# EAGLE library part TDA1554 (library Audio-Power-amplifier)
The TDA1554Q is an integrated class-B output amplifier in a 17-lead single-in-line (SIL) plastic power package. The circuit contains 4 x 11 W single-ended or 2 x 22 W bridge amplifiers. The device is primarily developed for car radio applications.
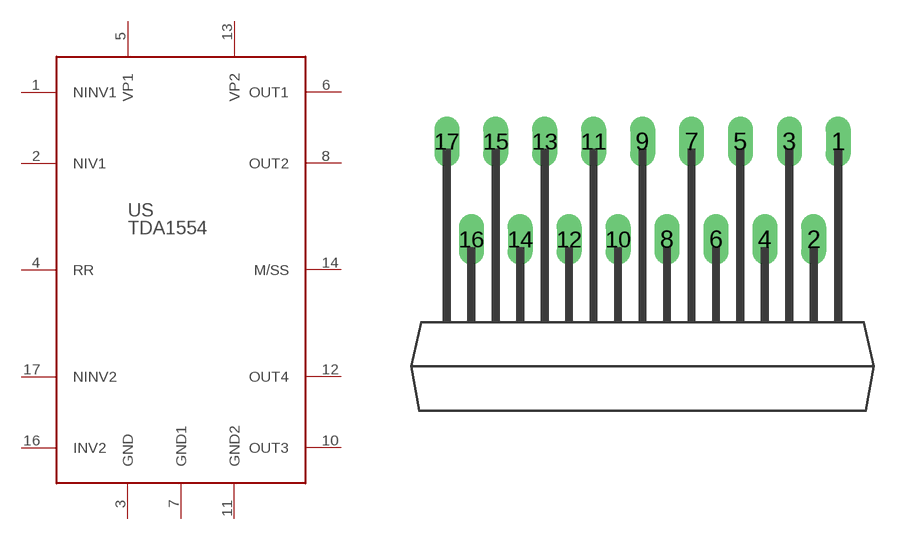
[diagram p1: symbol with the pads of SOT243-1; footprint SOT243-1]

Designator prefix US

## TDA1554Q  [SOT243-1]
1  NINV1  in
2  NIV1  in
3  GND  pwr
4  RR  pas
5  VP1  pwr
6  OUT1  out
7  GND1  pwr
8  OUT2  out
10  OUT3  out
11  GND2  pwr
12  OUT4  out
13  VP2  pwr
14  M/SS  pas
16  INV2  in
17  NINV2  in

## Footprint SOT243-1 (pad centres in mm)
drill 0.8 long: 1 10.16,13.97; 2 8.89,8.89; 3 7.62,13.97; 4 6.35,8.89; 5 5.08,13.97; 6 3.81,8.89; 7 2.54,13.97; 8 1.27,8.89; 9 0,13.97; 10 -1.27,8.89; 11 -2.54,13.97; 12 -3.81,8.89; 13 -5.08,13.97; 14 -6.35,8.89; 15 -7.62,13.97; 16 -8.89,8.89; 17 -10.16,13.97